# Altium footprint library ELEC-URB-CANACC-R1.0A1.PcbLib: 9 footprints
Each footprint in its own frame and in the unit in brackets; x right, y up, seen from the top. Pads: shape width x height; smd on the part's side, far side on the other; paste and mask are expansions set on the pad; w line width, h text height; cw(c..) or ccw(c..) is an arc to the next point about the centre after c.
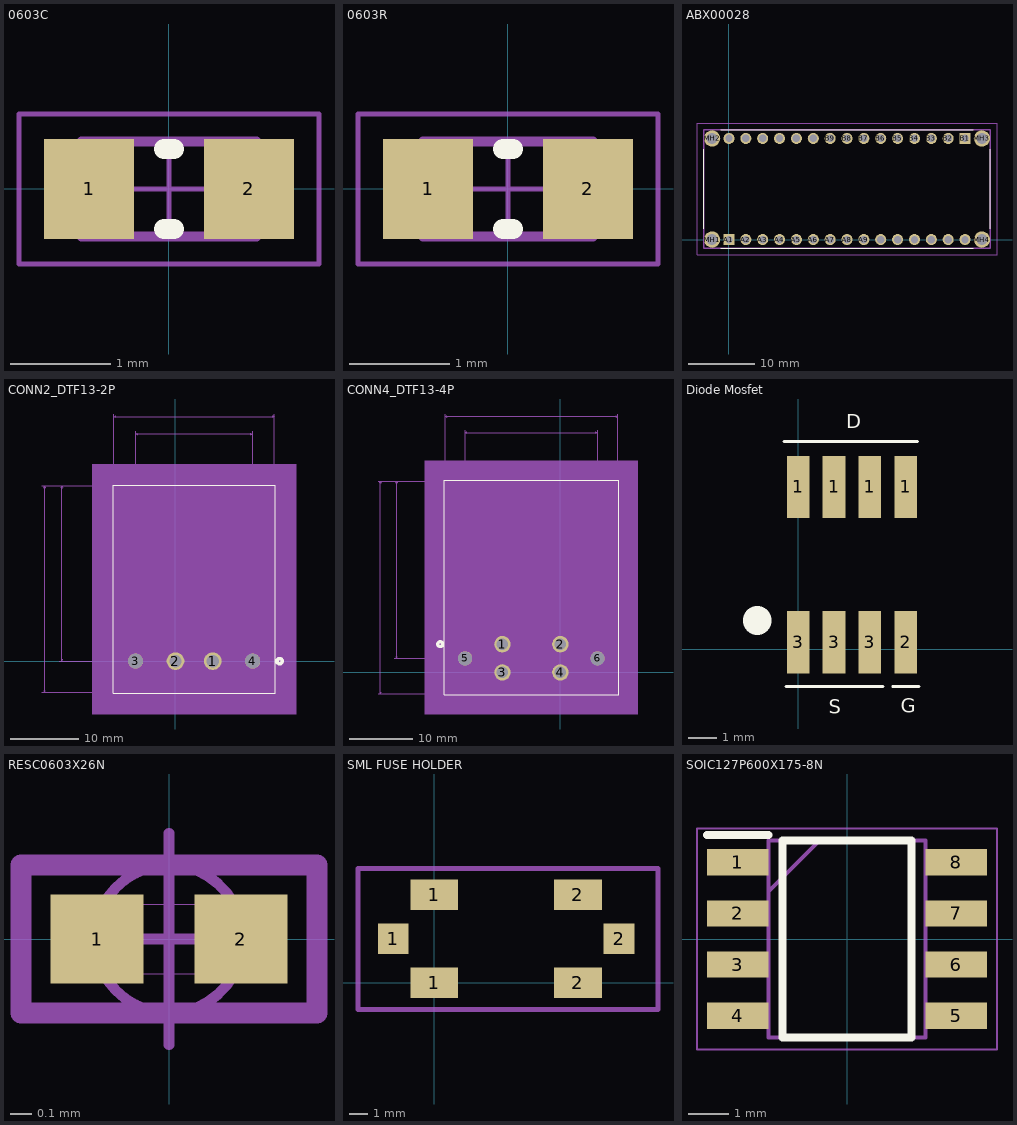
[diagram p0: the footprints below, top view; thin cyan lines are the x and y axes]

## 0603C [mm] "Chip Capacitor, Body 1.6x0.8mm, Height 1.0mm, IPC Medium Density"
height 1
pads (2):
  rect 0.9x1 smd: 1(-0.8,0) 2(0.8,0)
Top Overlay:
  lines w0.2: -0.05,-0.4 0.05,-0.4 ; -0.05,0.4 0.05,0.4
Mechanical 13:
  lines w0.1: -0.875,-0.475 0.875,-0.475 0.875,0.475 -0.875,0.475 -0.875,-0.475
Mechanical 15:
  lines w0.05: -0.475,0 0.475,0 ; 0,-0.475 0,0.475 ; -1.5,-0.75 1.5,-0.75 1.5,0.75 -1.5,0.75 -1.5,-0.75
3D body: height 1, standoff 0, extent 0.525,-0.475 0.875,0.475
3D body: height 1, standoff 0, extent -0.875,-0.475 -0.525,0.475
3D body: height 1, standoff 0, extent -0.525,-0.475 0.525,0.475

## 0603R [mm] "Chip Resistor, Body 1.6x0.8mm, IPC Medium Density"
height 0.6
pads (2):
  rect 0.9x1 smd: 1(-0.8,0) 2(0.8,0)
Top Overlay:
  lines w0.2: -0.05,-0.4 0.05,-0.4 ; -0.05,0.4 0.05,0.4
Mechanical 13:
  lines w0.1: -0.85,-0.475 0.85,-0.475 0.85,0.475 -0.85,0.475 -0.85,-0.475
Mechanical 15:
  lines w0.05: -0.475,0 0.475,0 ; 0,-0.475 0,0.475 ; -1.5,-0.75 1.5,-0.75 1.5,0.75 -1.5,0.75 -1.5,-0.75
3D body: height 0.6, standoff 0, extent -0.849,-0.474 -0.58,0.475
3D body: height 0.6, standoff 0, extent -0.58,-0.474 0.581,0.475
3D body: height 0.6, standoff 0, extent 0.581,-0.474 0.85,0.475

## ABX00028 [mm]
pads (34):
  rect 1.665x1.665 hole 1.11: A1(0,0) B1(35.56,15.24)
  round 1.665 hole 1.11: A2(2.54,0) A3(5.08,0) A4(7.62,0) A5(10.16,0) A6(12.7,0) A7(15.24,0) A8(17.78,0) A9(20.32,0) A10(22.86,0) A11(25.4,0) A12(27.94,0) A13(30.48,0) A14(33.02,0) A15(35.56,0) B2(33.02,15.24) B3(30.48,15.24) B4(27.94,15.24) B5(25.4,15.24) B6(22.86,15.24) B7(20.32,15.24) B8(17.78,15.24) B9(15.24,15.24) B10(12.7,15.24) B11(10.16,15.24) B12(7.62,15.24) B13(5.08,15.24) B14(2.54,15.24) B15(0,15.24)
  round 2.475 hole 1.65: MH1(-2.54,0) MH2(-2.54,15.24) MH3(38.1,15.24) MH4(38.1,0)
Top Overlay:
  lines w0.1: -3.81,1.62 -3.81,13.62 ; -1.22,-1.27 36.78,-1.27 ; -1.22,16.51 36.78,16.51 ; 39.37,1.62 39.37,13.62
Mechanical 13:
  lines w0.2: -3.81,-1.27 39.37,-1.27 39.37,16.51 -3.81,16.51 -3.81,-1.27
Mechanical 15:
  lines w0.1: -4.81,-2.27 40.37,-2.27 40.37,17.51 -4.81,17.51 -4.81,-2.27
3D body "ABX00028.stp": height 10, standoff -5, extent -3.81,-1.27 39.37,16.51

## CONN2_DTF13-2P [mil]
pads (4):
  round 102 / inner round 92 / far side round 92 hole 72 mask+0: 1(215,0) 2(0,0)
  round 87 hole 87: 3(-230.5,0) 4(445.5,0)
Top Overlay:
  circle w20: c600.5,0 r15
  lines w6: -360.5,-185 -360.5,1016 575.5,1016 575.5,-185 -360.5,-185
Bottom Overlay:
  circle w20: c600.5,0 r15
Mechanical 5:
  region: -480.5,1136 695.5,1136 695.5,-305 -480.5,-305
Mechanical 7:
  lines w1: -770.5,-180 -355.5,-180 ; -770.5,1011 -355.5,1011 ; -670.5,0 107.5,0 -470.5,0 445.5,0 445.5,1326 ; -670.5,1011 -355.5,1011 ; -455.5,-50 -455.5,0 ; -455.5,50 -455.5,0 ; -355.5,1426 -355.5,1011 ; -230.5,0 -230.5,1326 ; 0,0 0,1126 ; 215,1126 215,0 ; 570.5,1011 570.5,1426 ; 670.5,-50 670.5,0 ; 670.5,50 670.5,0 ; -755.5,-180 -750.5,-170 -760.5,-170 -755.5,-180 ; -755.5,-180 -755.5,1011 ; -755.5,1011 -750.5,1001 -760.5,1001 -755.5,1011 ; -655.5,0 -650.5,10 -660.5,10 -655.5,0 ; -655.5,0 -655.5,1011 ; -655.5,1011 -650.5,1001 -660.5,1001 -655.5,1011 ; -455.5,0 -450.5,-10 -460.5,-10 -455.5,0 ; -455.5,0 -450.5,10 -460.5,10 -455.5,0 ; -355.5,1411 -345.5,1406 -345.5,1416 -355.5,1411 ; -355.5,1411 570.5,1411 ; -230.5,1311 -220.5,1306 -220.5,1316 -230.5,1311 ; -230.5,1311 445.5,1311 ; 0,1111 10,1106 10,1116 0,1111 ; 0,1111 215,1111 ; 215,0 685.5,0 215,0 ; 215,1111 205,1106 205,1116 215,1111 ; 445.5,1311 435.5,1306 435.5,1316 445.5,1311 ; 570.5,1411 560.5,1406 560.5,1416 570.5,1411 ; 670.5,0 675.5,-10 665.5,-10 670.5,0 ; 670.5,0 675.5,10 665.5,10 670.5,0
  text "1.191in/30.251mm" at -975.5,493 h25
  text "1.011in/25.679mm" at -875.5,493 h25
  text "0in/0mm" at -563,-12.5 h25
  text "0in/0mm" at 690.5,-12.5 h25
  text "0.926in/23.52mm" at 13.75,1431 h25
  text "0.676in/17.17mm" at 13.75,1331 h25
  text "0.215in/5.461mm" at 175,1131 h25
  text "Alt Padstyle 2: OX90Y60D30P" at -230,-855 h50
  text "Alt Padstyle 1: OX60Y90D30P" at -230,-780 h50
  text "Right Mtg Padstyle: EX60Y60D30P" at -280,-705 h50
  text "Left Mtg Padstyle: EX60Y60D30P" at -267.5,-630 h50
  text "3rd Mtg Padstyle: EX70Y70D70P" at -255,-555 h50
  text "2nd Mtg Padstyle: EX70Y70D70P" at -255,-480 h50
  text "1st Mtg Padstyle: EX87Y87D87P" at -255,-405 h50
  text "Default Padstyle: EX92Y92D72P" at -255,-330 h50
Mechanical 13:
  circle w20: c215,75 r15
  lines w1: -355.5,-180 -355.5,1011 570.5,1011 570.5,-180 -355.5,-180
Mechanical 15:
  region: 570.5,1011 -355.5,1011 -355.5,-180 570.5,-180
  region: 580.5,1021 -365.5,1021 -365.5,-190 580.5,-190
  lines w6: -365.5,-190 580.5,-190 580.5,1021 -365.5,1021 -365.5,-190
3D body: height 10, standoff 0, extent 0,0 10,10

## CONN4_DTF13-4P [mil]
pads (6):
  round 102 / inner round 92 / far side round 92 hole 72 mask+0: 1(-359,175) 2(0,175) 3(-359,0) 4(0,0)
  round 87 hole 87: 5(-589.5,87.5) 6(230.5,87.5)
Top Overlay:
  circle w20: c-744.5,175 r15
  lines w6: -719.5,-137.5 360.5,-137.5 360.5,1190.5 -719.5,1190.5 -719.5,-137.5
Bottom Overlay:
  circle w20: c-744.5,175 r15
Mechanical 5:
  region: -839.5,1310.5 480.5,1310.5 480.5,-257.5 -839.5,-257.5
Mechanical 7:
  lines w1: -1129.5,-132.5 -714.5,-132.5 ; -1129.5,1185.5 -714.5,1185.5 ; -1029.5,87.5 -179.5,87.5 -829.5,87.5 230.5,87.5 230.5,1500.5 ; -1029.5,1185.5 -714.5,1185.5 ; -814.5,37.5 -814.5,87.5 ; -814.5,137.5 -814.5,87.5 ; -714.5,1600.5 -714.5,1185.5 ; -589.5,87.5 -589.5,1500.5 ; -359,0 470.5,0 ; -359,1300.5 -359,175 470.5,175 ; 0,175 0,1300.5 ; 355.5,1185.5 355.5,1600.5 ; -1114.5,-132.5 -1114.5,1185.5 ; -1114.5,-132.5 -1119.5,-122.5 -1109.5,-122.5 -1114.5,-132.5 ; -1114.5,1185.5 -1119.5,1175.5 -1109.5,1175.5 -1114.5,1185.5 ; -1014.5,87.5 -1014.5,1185.5 ; -1014.5,87.5 -1019.5,97.5 -1009.5,97.5 -1014.5,87.5 ; -1014.5,1185.5 -1019.5,1175.5 -1009.5,1175.5 -1014.5,1185.5 ; -814.5,87.5 -819.5,97.5 -809.5,97.5 -814.5,87.5 ; -814.5,87.5 -819.5,77.5 -809.5,77.5 -814.5,87.5 ; -714.5,1585.5 355.5,1585.5 ; -714.5,1585.5 -704.5,1590.5 -704.5,1580.5 -714.5,1585.5 ; -589.5,1485.5 230.5,1485.5 ; -589.5,1485.5 -579.5,1490.5 -579.5,1480.5 -589.5,1485.5 ; -359,1285.5 0,1285.5 ; -359,1285.5 -349,1290.5 -349,1280.5 -359,1285.5 ; 0,1285.5 -10,1290.5 -10,1280.5 0,1285.5 ; 230.5,1485.5 220.5,1490.5 220.5,1480.5 230.5,1485.5 ; 355.5,1585.5 345.5,1590.5 345.5,1580.5 355.5,1585.5 ; 455.5,0 455.5,175 ; 455.5,0 450.5,10 460.5,10 455.5,0 ; 455.5,175 450.5,165 460.5,165 455.5,175
  text "Default Padstyle: EX92Y92D72P" at -542,-282.5 h50
  text "1st Mtg Padstyle: EX87Y87D87P" at -542,-357.5 h50
  text "2nd Mtg Padstyle: EX70Y70D70P" at -542,-432.5 h50
  text "3rd Mtg Padstyle: EX70Y70D70P" at -542,-507.5 h50
  text "Left Mtg Padstyle: EX60Y60D30P" at -554.5,-582.5 h50
  text "Right Mtg Padstyle: EX60Y60D30P" at -567,-657.5 h50
  text "Alt Padstyle 1: OX60Y90D30P" at -517,-732.5 h50
  text "Alt Padstyle 2: OX90Y60D30P" at -517,-807.5 h50
  text "0.359in/9.119mm" at -542.5,1305.5 h25
  text "0.82in/20.828mm" at -273.25,1505.5 h25
  text "1.07in/27.178mm" at -273.25,1605.5 h25
  text "0.175in/4.445mm" at 475.5,75 h25
  text "0in/0mm" at -922,75 h25
  text "1.098in/27.889mm" at -1234.5,624 h25
  text "1.318in/33.477mm" at -1334.5,624 h25
Mechanical 13:
  circle w20: c-359,250 r15
  lines w1: -714.5,-132.5 355.5,-132.5 355.5,1185.5 -714.5,1185.5 -714.5,-132.5
Mechanical 15:
  region: 365.5,1195.5 -724.5,1195.5 -724.5,-142.5 365.5,-142.5
  region: 355.5,1185.5 -714.5,1185.5 -714.5,-132.5 355.5,-132.5
  lines w6: -724.5,-142.5 -724.5,1195.5 365.5,1195.5 365.5,-142.5 -724.5,-142.5
3D body: height 10, standoff 0, extent 0,0 10,10

## Diode Mosfet [mm]
pads (8):
  rect 0.8x2.2 smd: 1(0,5.74) 1(1.27,5.74) 1(2.54,5.74) 1(3.81,5.74) 2(3.81,0.24) 3(0,0.24) 3(1.27,0.24) 3(2.54,0.24)
Top Overlay:
  lines w0.1: -0.5,7.35 4.225,7.35 ; -0.425,-1.325 3,-1.325 ; 3.35,-1.325 4.275,-1.325
  lines w1: -1.45,1 -1.45,1.025
  text "S" at 1.075,-2.3 h0.5
  text "G" at 3.625,-2.25 h0.5
  text "D" at 1.7,7.825 h0.5

## RESC0603X26N [mm]
pads (2):
  rect 0.44x0.42 smd: 1(-0.34,0) 2(0.34,0)
Mechanical 13:
  lines w0.1: -0.7,-0.35 -0.7,0.35 0.7,0.35 0.7,-0.35 -0.7,-0.35
Mechanical 15:
  circle w0.05: c0,0 r0.35
  lines w0.001: -0.315,-0.165 -0.315,0.165 0.315,0.165 0.315,-0.165 -0.315,-0.165
  lines w0.05: -0.5,0 0.5,0 ; 0,-0.5 0,0.5 ; -0.71,-0.36 -0.71,0.36 0.71,0.36 0.71,-0.36 -0.71,-0.36
3D body "RC0201JR-0710KL.stp": height 0.26, standoff 0, extent -0.3,-0.15 0.3,0.15

## SML FUSE HOLDER [mm] "2 X 3586KTR"
pads (6):
  rect 1.7x1.7 smd: 1(-2.29,2.45) 2(10.28,2.45)
  rect 2.66x1.7 smd: 1(0,0) 1(0,4.9) 2(7.99,0) 2(7.99,4.9)
Mechanical 13:
  lines w0.254: -4.25,-1.5 12.45,-1.5 12.45,6.35 -3.75,6.35 -4.25,6.35 -4.25,-1.5

## SOIC127P600X175-8N [mm]
pads (8):
  rect 1.525x0.65 smd: 1(-2.712,1.905) 2(-2.712,0.635) 3(-2.712,-0.635) 4(-2.712,-1.905) 5(2.712,-1.905) 6(2.712,-0.635) 7(2.712,0.635) 8(2.712,1.905)
Top Overlay:
  lines w0.2: -3.475,2.58 -1.95,2.58 ; -1.6,-2.45 -1.6,2.45 1.6,2.45 1.6,-2.45 -1.6,-2.45
Mechanical 13:
  lines w0.1: -1.95,1.18 -0.68,2.45 ; -1.95,-2.45 -1.95,2.45 1.95,2.45 1.95,-2.45 -1.95,-2.45
Mechanical 15:
  lines w0.05: -3.725,-2.75 -3.725,2.75 3.725,2.75 3.725,-2.75 -3.725,-2.75
3D body "NE555DR.stp": height 1.75, standoff 0, extent -3,-2.45 3,2.45